# Altium footprint library TQFP.PcbLib: 51 footprints (part 4 of 4)
Each footprint in its own frame and in the unit in brackets; x right, y up, seen from the top. Pads: shape width x height; smd on the part's side, far side on the other; paste and mask are expansions set on the pad; w line width, h text height; cw(c..) or ccw(c..) is an arc to the next point about the centre after c.
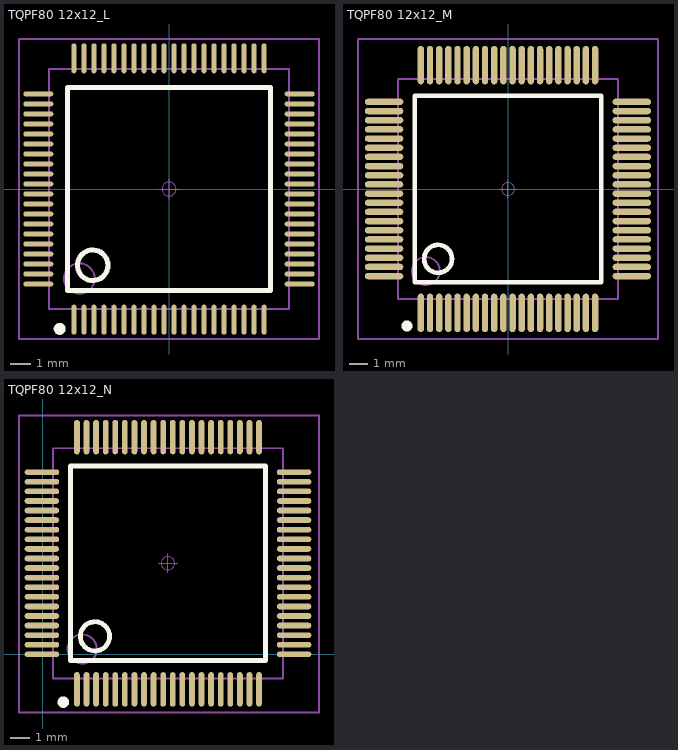
[diagram p3: the footprints below, top view; thin cyan lines are the x and y axes]

## TQPF80 12x12_L [mm] "80脚，体宽：12x12mm, 脚距：0.5mm"
pads (80):
  oval 0.25x1.5 smd: 1(-4.75,-6.525) 2(-4.25,-6.525) 3(-3.75,-6.525) 4(-3.25,-6.525) 5(-2.75,-6.525) 6(-2.25,-6.525) 7(-1.75,-6.525) 8(-1.25,-6.525) 9(-0.75,-6.525) 10(-0.25,-6.525) 11(0.25,-6.525) 12(0.75,-6.525) 13(1.25,-6.525) 14(1.75,-6.525) 15(2.25,-6.525) 16(2.75,-6.525) 17(3.25,-6.525) 18(3.75,-6.525) 19(4.25,-6.525) 20(4.75,-6.525) 41(4.75,6.525) 42(4.25,6.525) 43(3.75,6.525) 44(3.25,6.525) 45(2.75,6.525) 46(2.25,6.525) 47(1.75,6.525) 48(1.25,6.525) 49(0.75,6.525) 50(0.25,6.525) 51(-0.25,6.525) 52(-0.75,6.525) 53(-1.25,6.525) 54(-1.75,6.525) 55(-2.25,6.525) 56(-2.75,6.525) 57(-3.25,6.525) 58(-3.75,6.525) 59(-4.25,6.525) 60(-4.75,6.525)
  oval 1.5x0.25 smd: 21(6.525,-4.75) 22(6.525,-4.25) 23(6.525,-3.75) 24(6.525,-3.25) 25(6.525,-2.75) 26(6.525,-2.25) 27(6.525,-1.75) 28(6.525,-1.25) 29(6.525,-0.75) 30(6.525,-0.25) 31(6.525,0.25) 32(6.525,0.75) 33(6.525,1.25) 34(6.525,1.75) 35(6.525,2.25) 36(6.525,2.75) 37(6.525,3.25) 38(6.525,3.75) 39(6.525,4.25) 40(6.525,4.75) 61(-6.525,4.75) 62(-6.525,4.25) 63(-6.525,3.75) 64(-6.525,3.25) 65(-6.525,2.75) 66(-6.525,2.25) 67(-6.525,1.75) 68(-6.525,1.25) 69(-6.525,0.75) 70(-6.525,0.25) 71(-6.525,-0.25) 72(-6.525,-0.75) 73(-6.525,-1.25) 74(-6.525,-1.75) 75(-6.525,-2.25) 76(-6.525,-2.75) 77(-6.525,-3.25) 78(-6.525,-3.75) 79(-6.525,-4.25) 80(-6.525,-4.75)
Top Overlay:
  circle w0.254: c-3.81,-3.81 r0.762
  circle w0.35: c-5.461,-6.985 r0.125
  lines w0.254: -5.08,-5.08 -5.08,5.08 5.08,5.08 5.08,-5.08 -5.08,-5.08
Mechanical 13:
  circle w0.1: c-4.476,-4.476 r0.762
  lines w0.1: -6,-6 -6,6 6,6 6,-6 -6,-6
Mechanical 15:
  circle w0.05: c0,0 r0.35
  lines w0.05: -0.5,0 0.5,0 ; 0,-0.5 0,0.5
  lines w0.1: -7.493,-7.493 -7.493,7.493 7.493,7.493 7.493,-7.493 -7.493,-7.493
3D body: height 1.05, standoff -0.01, extent -7.002,-7.002 7.002,7.002

## TQPF80 12x12_M [mm] "80脚，体宽：12x12mm, 脚距：0.5mm"
pads (80):
  oval 0.35x2.1 smd: 1(-4.752,-6.754) 2(-4.252,-6.754) 3(-3.752,-6.754) 4(-3.252,-6.754) 5(-2.752,-6.754) 6(-2.252,-6.754) 7(-1.752,-6.754) 8(-1.252,-6.754) 9(-0.752,-6.754) 10(-0.252,-6.754) 11(0.248,-6.754) 12(0.748,-6.754) 13(1.248,-6.754) 14(1.748,-6.754) 15(2.248,-6.754) 16(2.748,-6.754) 17(3.248,-6.754) 18(3.748,-6.754) 19(4.248,-6.754) 20(4.748,-6.754) 41(4.748,6.754) 42(4.248,6.754) 43(3.748,6.754) 44(3.248,6.754) 45(2.748,6.754) 46(2.248,6.754) 47(1.748,6.754) 48(1.248,6.754) 49(0.748,6.754) 50(0.248,6.754) 51(-0.252,6.754) 52(-0.752,6.754) 53(-1.252,6.754) 54(-1.752,6.754) 55(-2.252,6.754) 56(-2.752,6.754) 57(-3.252,6.754) 58(-3.752,6.754) 59(-4.252,6.754) 60(-4.752,6.754)
  oval 2.1x0.35 smd: 21(6.752,-4.75) 22(6.752,-4.25) 23(6.752,-3.75) 24(6.752,-3.25) 25(6.752,-2.75) 26(6.752,-2.25) 27(6.752,-1.75) 28(6.752,-1.25) 29(6.752,-0.75) 30(6.752,-0.25) 31(6.752,0.25) 32(6.752,0.75) 33(6.752,1.25) 34(6.752,1.75) 35(6.752,2.25) 36(6.752,2.75) 37(6.752,3.25) 38(6.752,3.75) 39(6.752,4.25) 40(6.752,4.75) 61(-6.756,4.75) 62(-6.756,4.25) 63(-6.756,3.75) 64(-6.756,3.25) 65(-6.756,2.75) 66(-6.756,2.25) 67(-6.756,1.75) 68(-6.756,1.25) 69(-6.756,0.75) 70(-6.756,0.25) 71(-6.756,-0.25) 72(-6.756,-0.75) 73(-6.756,-1.25) 74(-6.756,-1.75) 75(-6.756,-2.25) 76(-6.756,-2.75) 77(-6.756,-3.25) 78(-6.756,-3.75) 79(-6.756,-4.25) 80(-6.756,-4.75)
Top Overlay:
  circle w0.35: c-5.512,-7.468 r0.125
  circle w0.254: c-3.812,-3.81 r0.762
  lines w0.254: -5.082,-5.08 5.078,-5.08 5.078,5.08 -5.082,5.08 -5.082,-5.08
Mechanical 13:
  circle w0.1: c-4.478,-4.476 r0.762
  lines w0.1: -6.002,-6 5.998,-6 5.998,6 -6.002,6 -6.002,-6
Mechanical 15:
  circle w0.05: c-0.002,0 r0.35
  lines w0.05: -0.502,0 0.498,0 ; -0.002,-0.5 -0.002,0.5
  lines w0.1: -8.179,-8.179 8.179,-8.179 8.179,8.179 -8.179,8.179 -8.179,-8.179
3D body: height 1.05, standoff -0.01, extent -7.005,-7.002 7,7.002

## TQPF80 12x12_N [mm] "80脚，体宽：12x12mm, 脚距：0.5mm"
pads (80):
  oval 0.3x1.8 smd: 1(1.775,-1.826) 2(2.275,-1.826) 3(2.775,-1.826) 4(3.275,-1.826) 5(3.775,-1.826) 6(4.275,-1.826) 7(4.775,-1.826) 8(5.275,-1.826) 9(5.775,-1.826) 10(6.275,-1.826) 11(6.775,-1.826) 12(7.275,-1.826) 13(7.775,-1.826) 14(8.275,-1.826) 15(8.775,-1.826) 16(9.275,-1.826) 17(9.775,-1.826) 18(10.275,-1.826) 19(10.775,-1.826) 20(11.275,-1.826) 41(11.275,11.326) 42(10.775,11.326) 43(10.275,11.326) 44(9.775,11.326) 45(9.275,11.326) 46(8.775,11.326) 47(8.275,11.326) 48(7.775,11.326) 49(7.275,11.326) 50(6.775,11.326) 51(6.275,11.326) 52(5.775,11.326) 53(5.275,11.326) 54(4.775,11.326) 55(4.275,11.326) 56(3.775,11.326) 57(3.275,11.326) 58(2.775,11.326) 59(2.275,11.326) 60(1.775,11.326)
  oval 1.8x0.3 smd: 21(13.102,0) 22(13.102,0.5) 23(13.102,1) 24(13.102,1.5) 25(13.102,2) 26(13.102,2.5) 27(13.102,3) 28(13.102,3.5) 29(13.102,4) 30(13.102,4.5) 31(13.102,5) 32(13.102,5.5) 33(13.102,6) 34(13.102,6.5) 35(13.102,7) 36(13.102,7.5) 37(13.102,8) 38(13.102,8.5) 39(13.102,9) 40(13.102,9.5) 61(-0.051,9.5) 62(-0.051,9) 63(-0.051,8.5) 64(-0.051,8) 65(-0.051,7.5) 66(-0.051,7) 67(-0.051,6.5) 68(-0.051,6) 69(-0.051,5.5) 70(-0.051,5) 71(-0.051,4.5) 72(-0.051,4) 73(-0.051,3.5) 74(-0.051,3) 75(-0.051,2.5) 76(-0.051,2) 77(-0.051,1.5) 78(-0.051,1) 79(-0.051,0.5) 80(-0.051,0)
Top Overlay:
  circle w0.35: c1.067,-2.489 r0.125
  circle w0.254: c2.715,0.94 r0.762
  lines w0.254: 1.445,-0.33 11.605,-0.33 11.605,9.83 1.445,9.83 1.445,-0.33
Mechanical 13:
  circle w0.1: c2.049,0.274 r0.762
  lines w0.1: 0.525,-1.25 12.525,-1.25 12.525,10.75 0.525,10.75 0.525,-1.25
Mechanical 15:
  circle w0.05: c6.525,4.75 r0.35
  lines w0.05: 6.025,4.75 7.025,4.75 ; 6.525,4.25 6.525,5.25
  lines w0.1: -1.245,-3.023 14.402,-3.023 14.402,12.446 -1.245,12.446 -1.245,-3.023
3D body: height 1.05, standoff -0.01, extent -0.477,-2.252 13.527,11.752